# EAGLE library part TB9051FTG (library ouijabot)
Dual TB9051FTG Motor Driver Shield for Arduino: https://www.pololu.com/product/2520
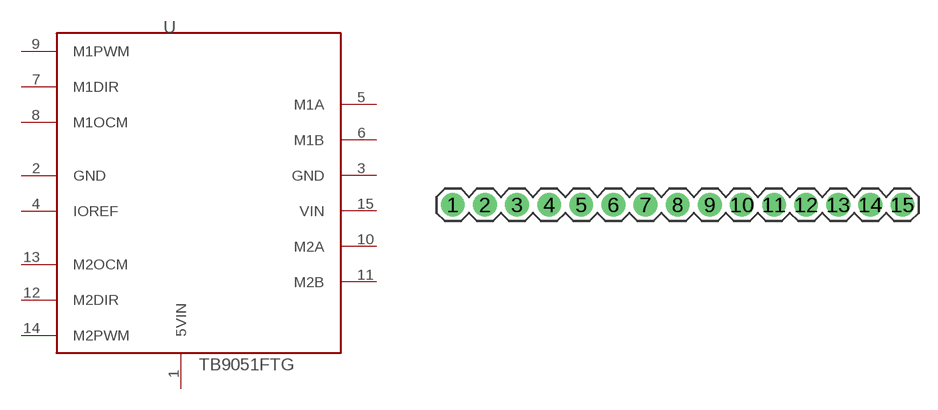
[diagram p3: symbol with the pads of 1X15; footprint 1X15]

Designator prefix -

## TB9051FTG  [1X15]
1  5VIN
2  GND
3  GND
4  IOREF
5  M1A
6  M1B
7  M1DIR
8  M1OCM
9  M1PWM
10  M2A
11  M2B
12  M2DIR
13  M2OCM
14  M2PWM
15  VIN

## Footprint 1X15 (pad centres in mm)
Plated Through Hole -15 Pin Specifications: Pin count:15 Pin pitch:0.1" Example device(s): CONN_15
drill 1.016 pad 1.88: 1 0,0; 2 2.54,0; 3 5.08,0; 4 7.62,0; 5 10.16,0; 6 12.7,0; 7 15.24,0; 8 17.78,0; 9 20.32,0; 10 22.86,0; 11 25.4,0; 12 27.94,0; 13 30.48,0; 14 33.02,0; 15 35.56,0